# EAGLE library part CY7C64215-28 (library PatternAgents-Cypress)
Cypress EZ-USB ® Encore III USB Microcontroller Full-Speed USB Peripheral Controller Source Data: http://www.cypress.com/?mpn=CY7C64215-28PVXC LBR Source: http://www.patternagents.com THIS SOFTWARE IS PROVIDED BY THE CONTRIBUTORS "AS IS" AND WITHOUT ANY EXPRESS OR IMPLIED WARRANTIES, INCLUDING, BUT NOT LIMITED TO, THE IMPLIED WARRANTIES OF MERCHANTABILITY AND FITNESS FOR A PARTICULAR PURPOSE ARE DISCLAIMED. IN NO EVENT SHALL THE COPYRIGHT OWNER OR CONTRIBUTORS BE LIABLE FOR ANY DIRECT, INDIRECT, INCIDENTAL, SPECIAL, EXEMPLARY, OR CONSEQUENTIAL DAMAGES (INCLUDING, BUT NOT LIMITED TO, PROCUREMENT OF SUBSTITUTE GOODS OR SERVICES; LOSS OF USE, DATA, OR PROFITS; OR BUSINESS INTERRUPTION) HOWEVER CAUSED AND ON ANY THEORY OF LIABILITY, WHETHER IN CONTRACT, STRICT LIABILITY, OR TORT (INCLUDING NEGLIGENCE OR OTHERWISE) ARISING IN ANY WAY OUT OF THE USE OF THIS SOFTWARE, EVEN IF ADVISED OF THE POSSIBILITY OF SUCH DAMAGE.
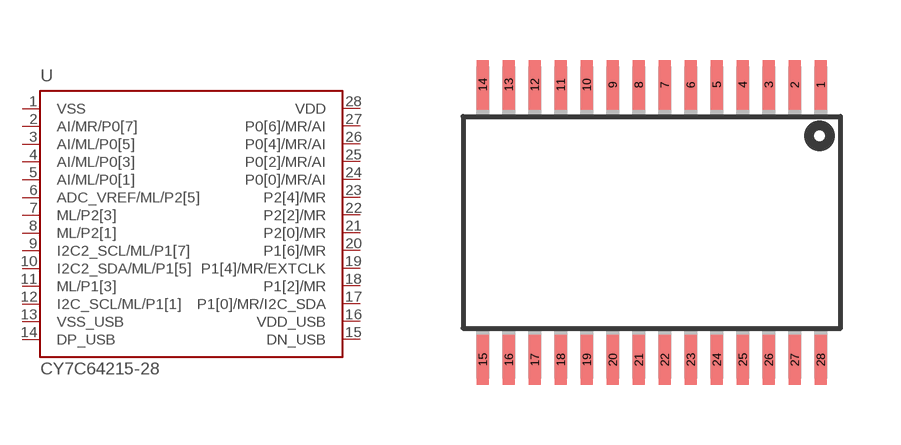
[diagram p4: symbol with the pads of SSOP28; footprint SSOP28]

Designator prefix U

## CY7C64215-28 (MPN: CY7C64215-28PVXC)  [SSOP28]
1  VSS  pwr
2  AI/MR/P0[7]
3  AI/ML/P0[5]
4  AI/ML/P0[3]
5  AI/ML/P0[1]
6  ADC_VREF/ML/P2[5]
7  ML/P2[3]
8  ML/P2[1]
9  I2C2_SCL/ML/P1[7]
10  I2C2_SDA/ML/P1[5]
11  ML/P1[3]
12  I2C_SCL/ML/P1[1]
13  VSS_USB  pwr
14  DP_USB
15  DN_USB
16  VDD_USB  pwr
17  P1[0]/MR/I2C_SDA
18  P1[2]/MR
19  P1[4]/MR/EXTCLK
20  P1[6]/MR
21  P2[0]/MR
22  P2[2]/MR
23  P2[4]/MR
24  P0[0]/MR/AI
25  P0[2]/MR/AI
26  P0[4]/MR/AI
27  P0[6]/MR/AI
28  VDD  pwr

## Footprint SSOP28 (pad centres in mm)
SSOP-28 Shrink Small Outline Package with 28 pins 28LD SSOP .210 mil Data Source: http://www.cypress.com/?docID=1371 LBR Source: http://www.patternagents.com THIS SOFTWARE IS PROVIDED BY THE CONTRIBUTORS "AS IS" AND WITHOUT ANY EXPRESS OR IMPLIED WARRANTIES, INCLUDING, BUT NOT LIMITED TO, THE IMPLIED WARRANTIES OF MERCHANTABILITY AND FITNESS FOR A PARTICULAR PURPOSE ARE DISCLAIMED. IN NO EVENT SHALL THE COPYRIGHT OWNER OR CONTRIBUTORS BE LIABLE FOR ANY DIRECT, INDIRECT, INCIDENTAL, SPECIAL, EXEMPLARY, OR CONSEQUENTIAL DAMAGES (INCLUDING, BUT NOT LIMITED TO, PROCUREMENT OF SUBSTITUTE GOODS OR SERVICES; LOSS OF USE, DATA, OR PROFITS; OR BUSINESS INTERRUPTION) HOWEVER CAUSED AND ON ANY THEORY OF LIABILITY, WHETHER IN CONTRACT, STRICT LIABILITY, OR TORT (INCLUDING NEGLIGENCE OR OTHERWISE) ARISING IN ANY WAY OUT OF THE USE OF THIS SOFTWARE, EVEN IF ADVISED OF THE POSSIBILITY OF SUCH DAMAGE.
smd 0.305 x 1.245: 1 4.224,3.441; 2 3.574,3.441; 3 2.924,3.441; 4 2.274,3.441; 5 1.624,3.441; 6 0.974,3.441; 7 0.325,3.44; 8 -0.326,3.441; 9 -0.976,3.441; 10 -1.626,3.441; 11 -2.276,3.441; 12 -2.926,3.441; 13 -3.576,3.441; 14 -4.226,3.441; 15 -4.224,-3.441; 16 -3.574,-3.441; 17 -2.924,-3.441; 18 -2.274,-3.441; 19 -1.624,-3.441; 20 -0.974,-3.441; 21 -0.324,-3.441; 22 0.326,-3.441; 23 0.976,-3.441; 24 1.626,-3.441; 25 2.276,-3.441; 26 2.926,-3.441; 27 3.576,-3.441; 28 4.226,-3.441